# EAGLE library part OPENMV (library OPENMV)
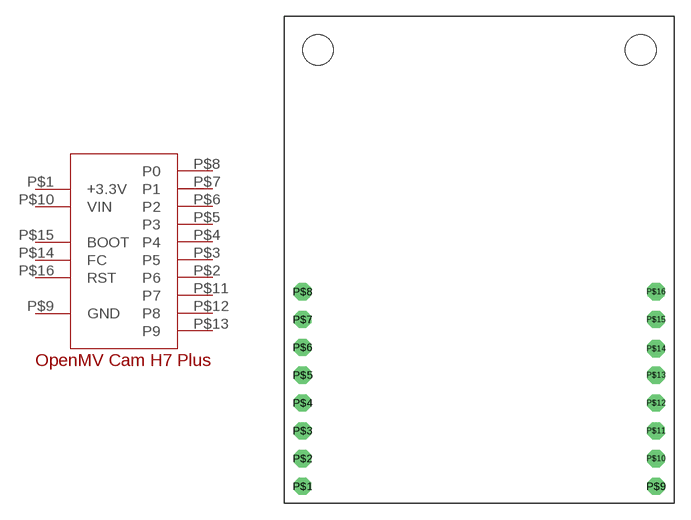
[diagram p0: symbol with the pads of OPENMV; footprint OPENMV]

Designator prefix -

## OPENMV  [OPENMV]
P$1  +3.3V
P$2  P6
P$3  P5
P$4  P4
P$5  P3
P$6  P2
P$7  P1
P$8  P0
P$9  GND
P$10  VIN
P$11  P7
P$12  P8
P$13  P9
P$14  FC
P$15  BOOT
P$16  RST

## Footprint OPENMV (pad centres in mm)
drill 1.05 octagon: P$1 1.651,1.524; P$2 1.651,4.064; P$3 1.651,6.604; P$4 1.651,9.144; P$5 1.651,11.684; P$6 1.651,14.224; P$7 1.651,16.764; P$8 1.651,19.304; P$9 33.909,1.524; P$10 33.909,4.064; P$11 33.909,6.604; P$12 33.909,9.144; P$13 33.909,11.684; P$14 33.909,14.097; P$15 33.909,16.764; P$16 33.909,19.304
hole 2.794 at 32.512,41.402
hole 2.794 at 3.048,41.402